# EAGLE library part SW_ROT_2P5T_71 (library wheat)
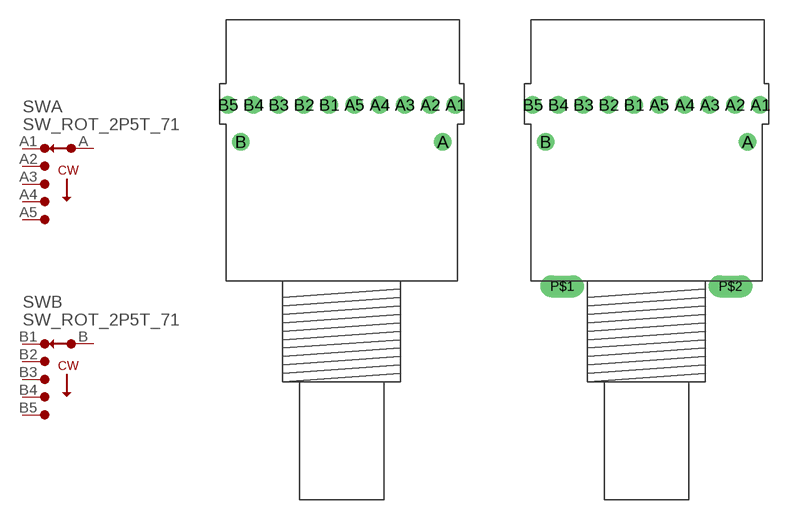
[diagram p220: symbol with the pads of SW_71BDF36-1; footprints SW_71BDF36-1, SW_71BDF36-1A]

Designator prefix SW; gates A=SW_1P5T B=SW_1P5T

## SW_ROT_2P5T_71  [SW_71BDF36-1]
A  A:C  pas
A1  A:1  pas
A2  A:2  pas
A3  A:3  pas
A4  A:4  pas
A5  A:5  pas
B  B:C  pas
B1  B:1  pas
B2  B:2  pas
B3  B:3  pas
B4  B:4  pas
B5  B:5  pas

## SW_ROT_2P5T_71A  [SW_71BDF36-1A]
Pads as for SW_71BDF36-1

## Footprint SW_71BDF36-1 (pad centres in mm)
drill 0.813 pad 1.321: A 7.62,10.465; A1 8.572,13.259; A2 6.668,13.259; A3 4.763,13.259; A4 2.857,13.259; A5 0.953,13.259; B -7.62,10.465; B1 -0.953,13.259; B2 -2.857,13.259; B3 -4.763,13.259; B4 -6.668,13.259; B5 -8.572,13.259

## Footprint SW_71BDF36-1A (pad centres in mm)
drill 0.813 pad 1.321: A 7.62,10.465; A1 8.572,13.259; A2 6.668,13.259; A3 4.763,13.259; A4 2.857,13.259; A5 0.953,13.259; B -7.62,10.465; B1 -0.953,13.259; B2 -2.857,13.259; B3 -4.763,13.259; B4 -6.668,13.259; B5 -8.572,13.259
drill 1.1 long: P$1 -6.35,-0.413; P$2 6.35,-0.413